# Altium schematic symbol library 2N5172.SchLib: 1 symbol
Pins are listed as number, name and electrical type; pins without a type are passive.

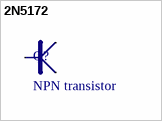
[diagram p0: symbol 2N5172]

## 2N5172
designator Q?, comment NPN transistor
Bipolar (BJT) Transistor NPN 25V 500mA 625mW Through Hole TO-92-3; MF: ON Semiconductor; MP: 2N5172; Package: TO-92 ON Semiconductor; DigiKey-Purchase-URL: https://snapeda.com/shop?store=DigiKey&id=2663226; Value: *; Availability: Warning; SnapEDA_Link: https://www.snapeda.com/parts/2N5172/ON%20Semiconductor/view-part/2663226/?ref=snap; Price: None
footprint TRANSISTOR_TO-92
footprint TRANSISTOR_TO-92
pins: 1, 2, 3